# Altium integrated library MT3608.IntLib: 1 symbol
Pins are listed as number, name and electrical type; pins without a type are passive.

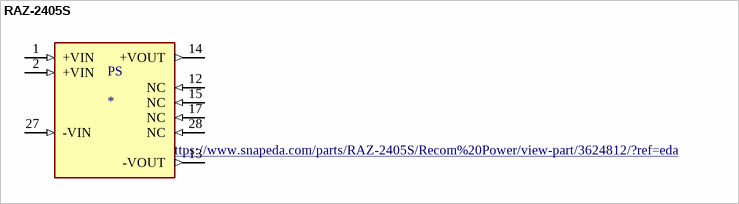
[diagram p0: symbol RAZ-2405S]

## RAZ-2405S
designator PS
1W DC/DC-Converter 'ECONOLINE' SMD 1kV unreg; MF: Recom Power; MP: RAZ-2405S; Value: *; Price: None; Availability: Bad; SnapEDA_Link: https://www.snapeda.com/parts/RAZ-2405S/Recom%20Power/view-part/3624812/?ref=snap; Mouser-Purchase-URL: https://snapeda.com/shop?store=Mouser&id=3624812; Package: - RECOM Power; BuyPart: https://www.snapeda.com/parts/RAZ-2405S/Recom%20Power/view-part/3624812/?ref=eda
footprint CONV_RAZ-2405S
pins: 1 +VIN (in), 2 +VIN (in), 12 NC (in), 13 -VOUT (out), 14 +VOUT (out), 15 NC (in), 17 NC (in), 27 -VIN (in), 28 NC (in)